# Altium footprint library WE-PoE+.PcbLib: 22 footprints (part 2 of 2)
Each footprint in its own frame and in the unit in brackets; x right, y up, seen from the top. Pads: shape width x height; smd on the part's side, far side on the other; paste and mask are expansions set on the pad; w line width, h text height; cw(c..) or ccw(c..) is an arc to the next point about the centre after c.
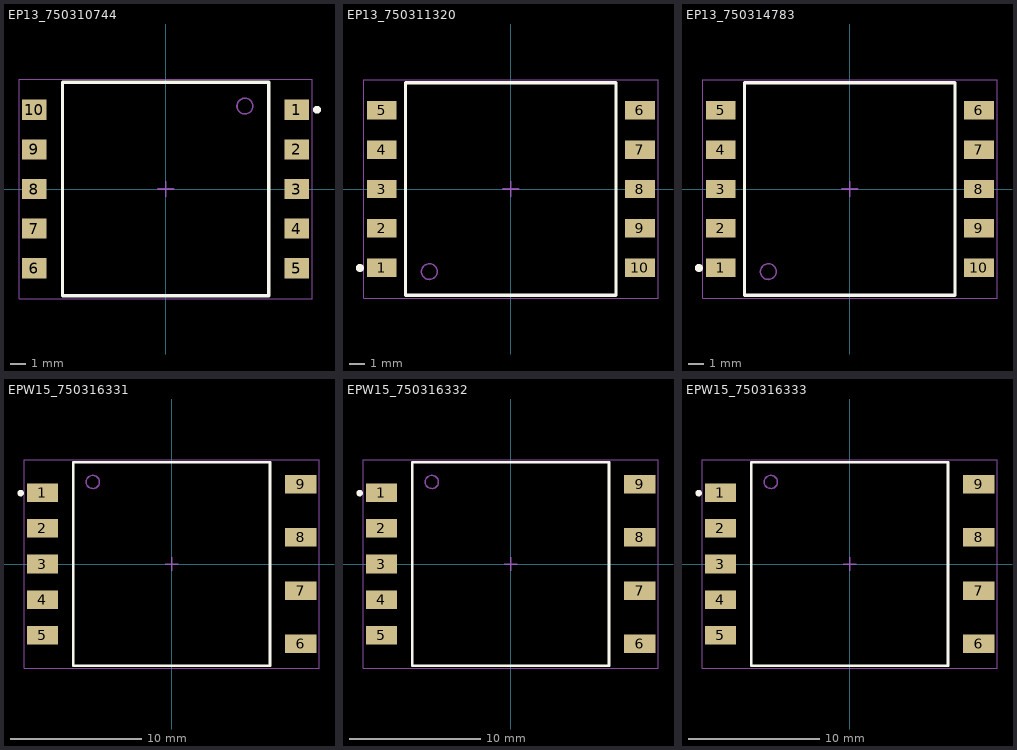
[diagram p1: the footprints below, top view; thin cyan lines are the x and y axes]

## EP13_750310744 [mm] "Power over Ethernet Plus Transformer, EP13, body 13.46 x 13.00 mm"
height 12.7
pads (10):
  rect 1.55x1.27 smd: 1(8.275,5) 2(8.275,2.5) 3(8.275,0) 4(8.275,-2.5) 5(8.275,-5) 6(-8.275,-5) 7(-8.275,-2.5) 8(-8.275,0) 9(-8.275,2.5) 10(-8.275,5)
Top Overlay:
  circle w0.25: c9.55,5 r0.125
  lines w0.2: -6.5,-6.73 6.5,-6.73 6.5,6.73 -6.5,6.73 -6.5,-6.73
Top Assembly:
  circle w0.1: c5,5.23 r0.5
  lines w0.1: -6.5,-6.73 -6.5,6.73 6.5,6.73 6.5,-6.73 -6.5,-6.73
Top Designator:
  text ".Designator" at -3.647,-0.357 h1
Top 3D Body:
  circle w0.1: c5,5.23 r0.5
  lines w0.1: -6.5,-6.73 -6.5,6.73 6.5,6.73 6.5,-6.73 -6.5,-6.73
Top Courtyard:
  lines w0.05: -9.25,-6.93 9.25,-6.93 9.25,6.93 -9.25,6.93 -9.25,-6.93
Top Component Center:
  lines w0.1: -0.5,0 0.5,0 ; 0,-0.5 0,0.5
3D body "EP13_749119933.stp": height 12.5, standoff 0, extent -8.875,-6.75 8.875,6.75

## EP13_750311320 [mm] "Power over Ethernet Plus Transformer, EP13, body 17.75 x 13.46 mm"
height 12.7
pads (10):
  rect 1.88x1.17 smd: 1(-8.18,-5) 2(-8.18,-2.5) 3(-8.18,0) 4(-8.18,2.5) 5(-8.18,5) 6(8.18,5) 7(8.18,2.5) 8(8.18,0) 9(8.18,-2.5) 10(8.18,-5)
Top Overlay:
  circle w0.25: c-9.55,-5 r0.125
  lines w0.2: -6.66,-6.73 -6.66,6.73 6.66,6.73 6.66,-6.73 -6.66,-6.73
Top Assembly:
  circle w0.1: c-5.16,-5.23 r0.5
  lines w0.1: -6.66,-6.73 -6.66,6.73 6.66,6.73 6.66,-6.73 -6.66,-6.73
Top Designator:
  text ".Designator" at -3.647,-0.357 h1
Top 3D Body:
  circle w0.1: c-5.16,-5.23 r0.5
  lines w0.1: -6.66,-6.73 -6.66,6.73 6.66,6.73 6.66,-6.73 -6.66,-6.73
Top Courtyard:
  lines w0.05: -9.32,-6.93 9.32,-6.93 9.32,6.93 -9.32,6.93 -9.32,-6.93
Top Component Center:
  lines w0.1: -0.5,0 0.5,0 ; 0,-0.5 0,0.5
3D body "Download_STP_070-2381 (rev1) (1).STEP": height 11.99, standoff 0.03, extent -8.58,-6.56 8.58,6.56

## EP13_750314783 [mm] "Power over Ethernet Plus Transformer, EP13, body 17.75 x 13.46 mm"
height 12.7
pads (10):
  rect 1.88x1.17 smd: 1(-8.18,-5) 2(-8.18,-2.5) 3(-8.18,0) 4(-8.18,2.5) 5(-8.18,5) 6(8.18,5) 7(8.18,2.5) 8(8.18,0) 9(8.18,-2.5) 10(8.18,-5)
Top Overlay:
  circle w0.25: c-9.55,-5 r0.125
  lines w0.2: -6.66,-6.73 6.66,-6.73 6.66,6.73 -6.66,6.73 -6.66,-6.73
Top Assembly:
  circle w0.1: c-5.16,-5.23 r0.5
  lines w0.1: -6.66,-6.73 6.66,-6.73 6.66,6.73 -6.66,6.73 -6.66,-6.73
Top Designator:
  text ".Designator" at -3.647,-0.357 h1
Top 3D Body:
  circle w0.1: c-5.16,-5.23 r0.5
  lines w0.1: -6.66,-6.73 6.66,-6.73 6.66,6.73 -6.66,6.73 -6.66,-6.73
Top Courtyard:
  lines w0.05: -9.32,-6.93 -9.32,6.93 9.32,6.93 9.32,-6.93 -9.32,-6.93
Top Component Center:
  lines w0.1: -0.5,0 0.5,0 ; 0,-0.5 0,0.5
3D body "Download_STP_070-2381 (rev1) (1).STEP": height 11.99, standoff 0.03, extent -8.58,-6.56 8.58,6.56

## EPW15_750316331 [mm] "Power over Ethernet Plus Transformer, EP13, body 21.69 x 15.50 mm"
height 13.5
pads (9):
  rect 2.38x1.41 smd: 1(-9.84,5.44) 2(-9.84,2.72) 3(-9.84,0) 4(-9.84,-2.72) 5(-9.84,-5.44) 6(9.84,-6.06) 7(9.84,-2.02) 8(9.84,2.02) 9(9.84,6.06)
Top Overlay:
  circle w0.25: c-11.5,5.4 r0.125
  lines w0.2: -7.5,-7.75 -7.5,7.75 7.5,7.75 7.5,-7.75 -7.5,-7.75
Top Assembly:
  circle w0.1: c-6,6.25 r0.5
  lines w0.1: -7.5,-7.75 7.5,-7.75 7.5,7.75 -7.5,7.75 -7.5,-7.75
Top Designator:
  text ".Designator" at -3.647,-0.357 h1
Top 3D Body:
  circle w0.1: c-6,6.25 r0.5
  lines w0.1: -7.5,-7.75 7.5,-7.75 7.5,7.75 -7.5,7.75 -7.5,-7.75
Top Courtyard:
  lines w0.05: -11.23,-7.95 11.23,-7.95 11.23,7.95 -11.23,7.95 -11.23,-7.95
Top Component Center:
  lines w0.1: -0.5,0 0.5,0 ; 0,-0.5 0,0.5
3D body "Download_STP_070-6782 (rev1).STEP": height 12.6, standoff 0.03, extent -10.495,-7.502 10.495,7.503

## EPW15_750316332 [mm] "Power over Ethernet Plus Transformer, EP13, body 21.69 x 15.50 mm"
height 13.5
pads (9):
  rect 2.38x1.41 smd: 1(-9.84,5.44) 2(-9.84,2.72) 3(-9.84,0) 4(-9.84,-2.72) 5(-9.84,-5.44) 6(9.84,-6.06) 7(9.84,-2.02) 8(9.84,2.02) 9(9.84,6.06)
Top Overlay:
  circle w0.25: c-11.5,5.4 r0.125
  lines w0.2: -7.5,-7.75 7.5,-7.75 7.5,7.75 -7.5,7.75 -7.5,-7.75
Top Assembly:
  circle w0.1: c-6,6.25 r0.5
  lines w0.1: -7.5,-7.75 -7.5,7.75 7.5,7.75 7.5,-7.75 -7.5,-7.75
Top Designator:
  text ".Designator" at -3.647,-0.357 h1
Top 3D Body:
  circle w0.1: c-6,6.25 r0.5
  lines w0.1: -7.5,-7.75 -7.5,7.75 7.5,7.75 7.5,-7.75 -7.5,-7.75
Top Courtyard:
  lines w0.05: -11.23,-7.95 -11.23,7.95 11.23,7.95 11.23,-7.95 -11.23,-7.95
Top Component Center:
  lines w0.1: -0.5,0 0.5,0 ; 0,-0.5 0,0.5
3D body "Download_STP_070-6782 (rev1).STEP": height 12.6, standoff 0.03, extent -10.495,-7.502 10.495,7.503

## EPW15_750316333 [mm] "Power over Ethernet Plus Transformer, EP13, body 21.69 x 15.50 mm"
height 13.5
pads (9):
  rect 2.38x1.41 smd: 1(-9.84,5.44) 2(-9.84,2.72) 3(-9.84,0) 4(-9.84,-2.72) 5(-9.84,-5.44) 6(9.84,-6.06) 7(9.84,-2.02) 8(9.84,2.02) 9(9.84,6.06)
Top Overlay:
  circle w0.25: c-11.5,5.4 r0.125
  lines w0.2: -7.5,-7.75 7.5,-7.75 7.5,7.75 -7.5,7.75 -7.5,-7.75
Top Assembly:
  circle w0.1: c-6,6.25 r0.5
  lines w0.1: -7.5,-7.75 -7.5,7.75 7.5,7.75 7.5,-7.75 -7.5,-7.75
Top Designator:
  text ".Designator" at -3.647,-0.357 h1
Top 3D Body:
  circle w0.1: c-6,6.25 r0.5
  lines w0.1: -7.5,-7.75 -7.5,7.75 7.5,7.75 7.5,-7.75 -7.5,-7.75
Top Courtyard:
  lines w0.05: -11.23,-7.95 -11.23,7.95 11.23,7.95 11.23,-7.95 -11.23,-7.95
Top Component Center:
  lines w0.1: -0.5,0 0.5,0 ; 0,-0.5 0,0.5
3D body "Download_STP_070-6782 (rev1).STEP": height 12.6, standoff 0.03, extent -10.495,-7.502 10.495,7.503